# Altium integrated library Analog Devices Operational Amplifiers.IntLib: 2102 symbols (part 49 of 70)
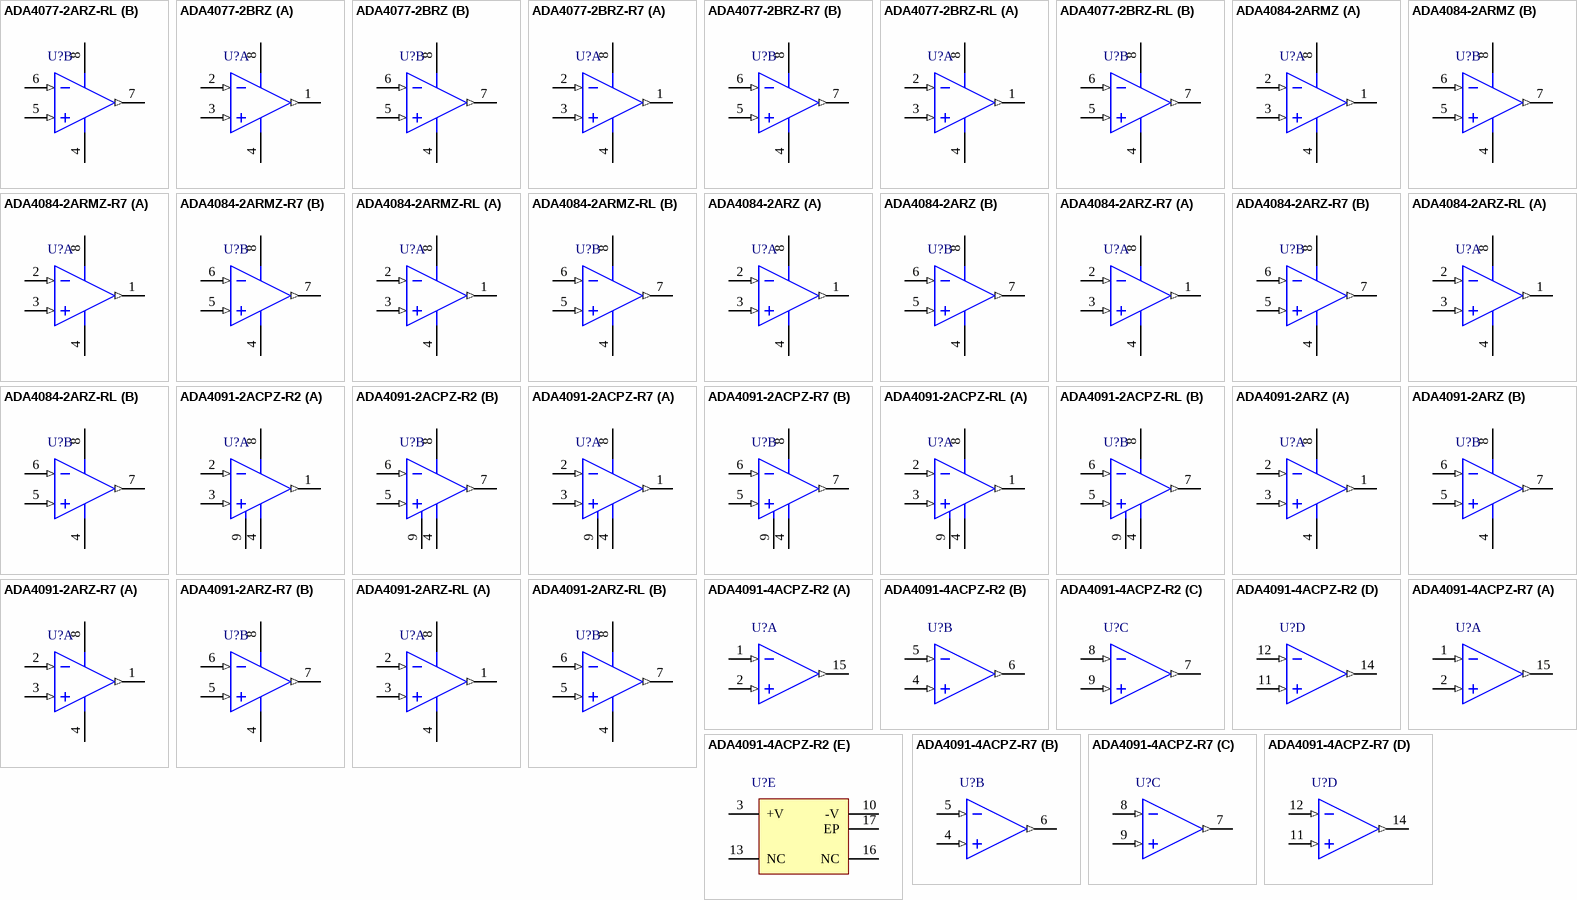
[diagram p162: symbols ADA4077-2ARZ-RL to ADA4091-4ACPZ-R7]

## ADA4091-2ARZ-R7
designator U?
Double Channel Rail-to-Rail Operational Amplifier, 1.27 MHz BW, 460 mV/us SR, Industrial, 8-pin SOIC (R-8), Reel; Generic Part Number: ADA4091-2; Manufacturer: Analog Devices; PartNumber: ADA4091-2ARZ-R7; Amplifiers Per Package: 2; Input Bias Current: 50nA; Input Offset Voltage: 35uV; Iq/Amp: 200uA; V Span Max: 30V; V Span Min: 3V; DatasheetVersion: Rev. F; PackageVersion: 060506-A; PackageReference: R-8; PackageDescription: 8-Pin Standard Small Outline Package, Body 3.9 x 4.9 mm, Pitch 1.27 mm; Supplier 1: Digi-Key; Supplier Part Number 1: ADA4091-2ARZ-R7-ND; Supplier 2: Newark; Supplier Part Number 2: 34P2966; Slew Rate: 460mV/us; Small Signal Bandwidth: 1.27MHz; Mounting Technology: Surface Mount; Code_JEDEC: MS-012-AA; ComponentLink1Description: Manufacturer URL; ComponentLink1URL: http://www.analog.com/en/index.html; ComponentLink2Description: Datasheet; ComponentLink2URL: http://www.analog.com/static/imported-files/data_sheets/ADA4091-2_4091-4.pdf; ComponentLink3Description: Package Specification; ComponentLink3URL: http://www.analog.com/static/imported-files/packages/PKG_PDF/SOIC_Narrow%20(R)/R_8.pdf; ComponentLink4Description: Reference Circuit; ComponentLink4URL: http://www.analog.com/en/all-operational-amplifiers-op-amps/operational-amplifiers-op-amps/ada4091-2/products/product.html#product-recommendations
footprint ADI-R-8_N (SOIC, 8-Leads, Body 4.9x3.9mm, Pitch 1.27mm, IPC Medium Density)
footprint ADI-R-8_L (SOIC, 8-Leads, Body 4.9x3.9mm, Pitch 1.27mm, IPC High Density)
footprint ADI-R-8_M (SOIC, 8-Leads, Body 4.9x3.9mm, Pitch 1.27mm, IPC Low Density)
pins on every part: 4 -V (power), 8 +V (power)
part A pins: 1 OUT A (out), 2 -IN A (in), 3 +IN A (in)
part B pins: 5 +IN B (in), 6 -IN B (in), 7 OUT B (out)

## ADA4091-2ARZ-RL
designator U?
Double Channel Rail-to-Rail Operational Amplifier, 1.27 MHz BW, 460 mV/us SR, Industrial, 8-pin SOIC (R-8), Reel; Generic Part Number: ADA4091-2; Manufacturer: Analog Devices; PartNumber: ADA4091-2ARZ-RL; Amplifiers Per Package: 2; Input Bias Current: 50nA; Input Offset Voltage: 35uV; Iq/Amp: 200uA; V Span Max: 30V; V Span Min: 3V; DatasheetVersion: Rev. F; PackageVersion: 060506-A; PackageReference: R-8; PackageDescription: 8-Pin Standard Small Outline Package, Body 3.9 x 4.9 mm, Pitch 1.27 mm; Supplier 1: Digi-Key; Supplier Part Number 1: ADA4091-2ARZ-RL-ND; Supplier 2: Newark; Supplier Part Number 2: 34P2965; Slew Rate: 460mV/us; Small Signal Bandwidth: 1.27MHz; Mounting Technology: Surface Mount; Code_JEDEC: MS-012-AA; ComponentLink1Description: Manufacturer URL; ComponentLink1URL: http://www.analog.com/en/index.html; ComponentLink2Description: Datasheet; ComponentLink2URL: http://www.analog.com/static/imported-files/data_sheets/ADA4091-2_4091-4.pdf; ComponentLink3Description: Package Specification; ComponentLink3URL: http://www.analog.com/static/imported-files/packages/PKG_PDF/SOIC_Narrow%20(R)/R_8.pdf; ComponentLink4Description: Reference Circuit; ComponentLink4URL: http://www.analog.com/en/all-operational-amplifiers-op-amps/operational-amplifiers-op-amps/ada4091-2/products/product.html#product-recommendations
footprint ADI-R-8_N (SOIC, 8-Leads, Body 4.9x3.9mm, Pitch 1.27mm, IPC Medium Density)
footprint ADI-R-8_L (SOIC, 8-Leads, Body 4.9x3.9mm, Pitch 1.27mm, IPC High Density)
footprint ADI-R-8_M (SOIC, 8-Leads, Body 4.9x3.9mm, Pitch 1.27mm, IPC Low Density)
pins on every part: 4 -V (power), 8 +V (power)
part A pins: 1 OUT A (out), 2 -IN A (in), 3 +IN A (in)
part B pins: 5 +IN B (in), 6 -IN B (in), 7 OUT B (out)

## ADA4091-4ACPZ-R2
designator U?
Quad Channel Rail-to-Rail Operational Amplifier, 1.27 MHz BW, 460 mV/us SR, Industrial, 16-pin QFN (CP-16-17), Reel; Generic Part Number: ADA4091-4; Manufacturer: Analog Devices; PartNumber: ADA4091-4ACPZ-R2; Amplifiers Per Package: 4; Input Bias Current: 50nA; Input Offset Voltage: 35uV; Iq/Amp: 200uA; V Span Max: 30V; V Span Min: 3V; DatasheetVersion: Rev. F; PackageVersion: 08-16-2010-C; PackageReference: CP-16-17; PackageDescription: 16-Pin Lead Frame Chip Scale Package, Body 4 x 4 mm, Pitch 0.65 mm; Supplier 1: Digi-Key; Supplier Part Number 1: ADA4091-4ACPZ-R2TR-ND; Supplier 2: Digi-Key; Supplier Part Number 2: ADA4091-4ACPZ-R2CT-ND; Supplier 3: Digi-Key; Supplier Part Number 3: ADA4091-4ACPZ-R2DKR-ND; Supplier 4: Newark; Supplier Part Number 4: 74R5830; Slew Rate: 460mV/us; Small Signal Bandwidth: 1.27MHz; Mounting Technology: Surface Mount; Code_JEDEC: MO-220-WGGC; ComponentLink1Description: Manufacturer URL; ComponentLink1URL: http://www.analog.com/en/index.html; ComponentLink2Description: Datasheet; ComponentLink2URL: http://www.analog.com/static/imported-files/data_sheets/ADA4091-2_4091-4.pdf; ComponentLink3Description: Package Specification; ComponentLink3URL: http://www.analog.com/static/imported-files/packages/PKG_PDF/LFCSP(CP)/CP_16_17.pdf; ComponentLink4Description: Reference Circuit; ComponentLink4URL: http://www.analog.com/en/all-operational-amplifiers-op-amps/operational-amplifiers-op-amps/ada4091-4/products/product.html#product-recommendations
footprint ADI-CP-16-17_N (QFN, 16-Leads, Body 4x4mm, Pitch 0.65mm, Thermal Pad 2.60x2.60mm, IPC Medium Density)
footprint ADI-CP-16-17_L (QFN, 16-Leads, Body 4x4mm, Pitch 0.65mm, Thermal Pad 2.60x2.60mm, IPC High Density)
footprint ADI-CP-16-17_M (QFN, 16-Leads, Body 4x4mm, Pitch 0.65mm, Thermal Pad 2.60x2.60mm, IPC Low Density)
part A pins: 1 -IN A (in), 2 +IN A (in), 15 OUT A (out)
part B pins: 4 +IN B (in), 5 -IN B (in), 6 OUT B (out)
part C pins: 7 OUT C (out), 8 -IN C (in), 9 +IN C (in)
part D pins: 11 +IN D (in), 12 -IN D (in), 14 OUT D (out)
part E pins: 3 +V (power), 10 -V (power), 13 NC, 16 NC, 17 EP (power) "IT IS RECOMMENDED THAT THE EXPOSED PAD BE CONNECTED TO V-."

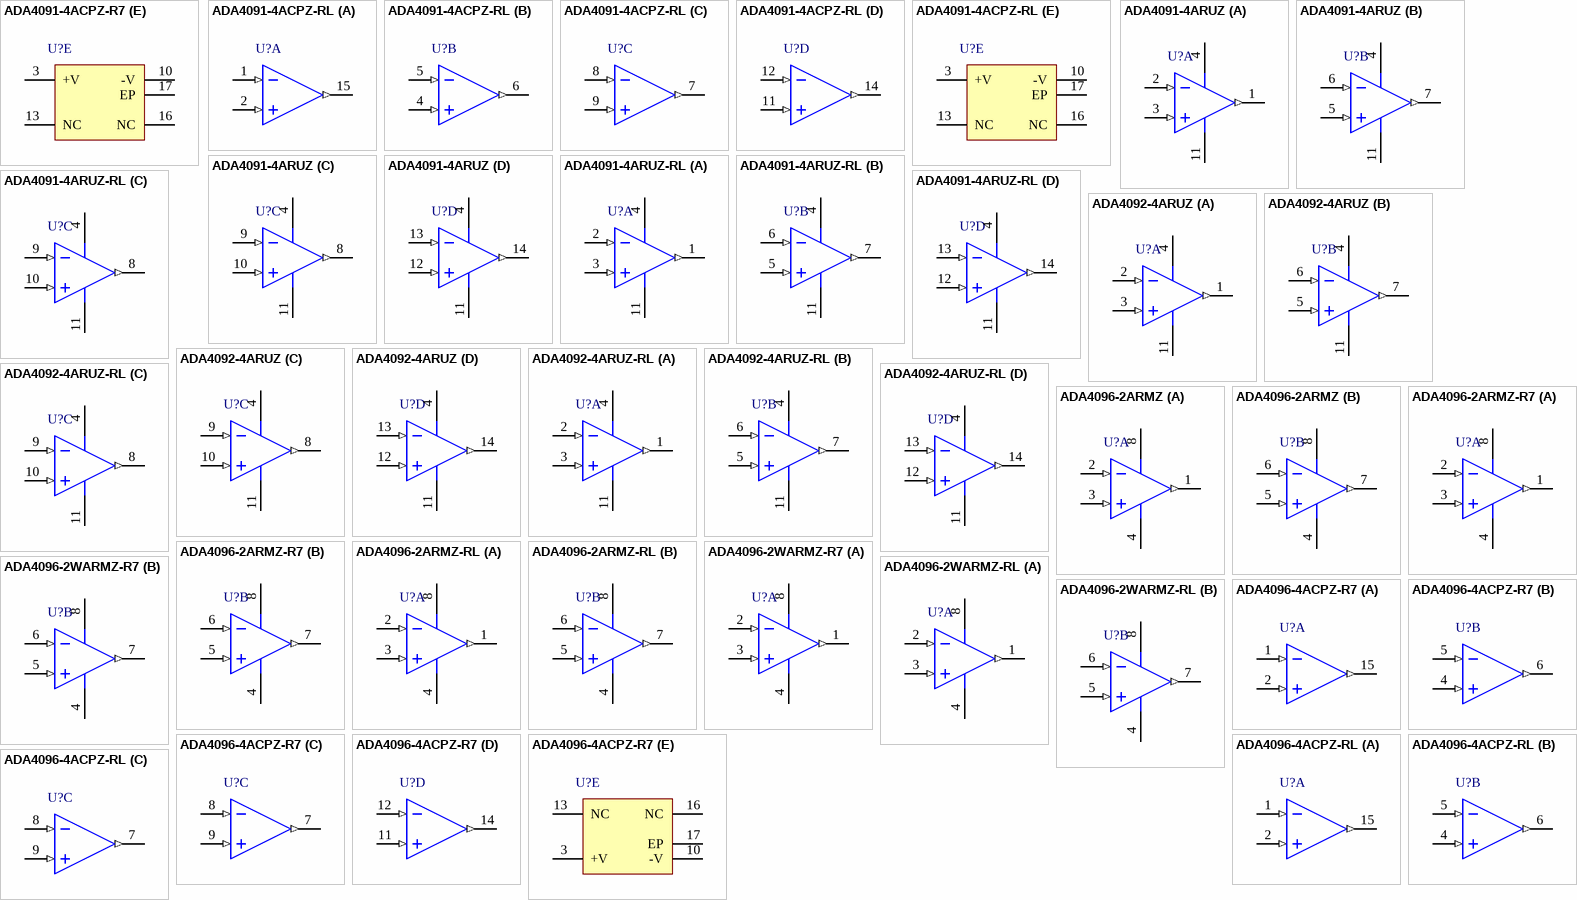
[diagram p77: symbols ADA4091-4ACPZ-R7 to ADA4096-4ACPZ-RL]

## ADA4091-4ACPZ-R7
designator U?
Quad Channel Rail-to-Rail Operational Amplifier, 1.27 MHz BW, 460 mV/us SR, Industrial, 16-pin QFN (CP-16-17), Reel; Generic Part Number: ADA4091-4; Manufacturer: Analog Devices; PartNumber: ADA4091-4ACPZ-R7; Amplifiers Per Package: 4; Input Bias Current: 50nA; Input Offset Voltage: 35uV; Iq/Amp: 200uA; V Span Max: 30V; V Span Min: 3V; DatasheetVersion: Rev. F; PackageVersion: 08-16-2010-C; PackageReference: CP-16-17; PackageDescription: 16-Pin Lead Frame Chip Scale Package, Body 4 x 4 mm, Pitch 0.65 mm; Supplier 1: Digi-Key; Supplier Part Number 1: ADA4091-4ACPZ-R7-ND; Supplier 2: Newark; Supplier Part Number 2: 74R5831; Slew Rate: 460mV/us; Small Signal Bandwidth: 1.27MHz; Mounting Technology: Surface Mount; Code_JEDEC: MO-220-WGGC; ComponentLink1Description: Manufacturer URL; ComponentLink1URL: http://www.analog.com/en/index.html; ComponentLink2Description: Datasheet; ComponentLink2URL: http://www.analog.com/static/imported-files/data_sheets/ADA4091-2_4091-4.pdf; ComponentLink3Description: Package Specification; ComponentLink3URL: http://www.analog.com/static/imported-files/packages/PKG_PDF/LFCSP(CP)/CP_16_17.pdf; ComponentLink4Description: Reference Circuit; ComponentLink4URL: http://www.analog.com/en/all-operational-amplifiers-op-amps/operational-amplifiers-op-amps/ada4091-4/products/product.html#product-recommendations
footprint ADI-CP-16-17_N (QFN, 16-Leads, Body 4x4mm, Pitch 0.65mm, Thermal Pad 2.60x2.60mm, IPC Medium Density)
footprint ADI-CP-16-17_L (QFN, 16-Leads, Body 4x4mm, Pitch 0.65mm, Thermal Pad 2.60x2.60mm, IPC High Density)
footprint ADI-CP-16-17_M (QFN, 16-Leads, Body 4x4mm, Pitch 0.65mm, Thermal Pad 2.60x2.60mm, IPC Low Density)
part A pins: 1 -IN A (in), 2 +IN A (in), 15 OUT A (out)
part B pins: 4 +IN B (in), 5 -IN B (in), 6 OUT B (out)
part C pins: 7 OUT C (out), 8 -IN C (in), 9 +IN C (in)
part D pins: 11 +IN D (in), 12 -IN D (in), 14 OUT D (out)
part E pins: 3 +V (power), 10 -V (power), 13 NC, 16 NC, 17 EP (power) "IT IS RECOMMENDED THAT THE EXPOSED PAD BE CONNECTED TO V-."

## ADA4091-4ACPZ-RL
designator U?
Quad Channel Rail-to-Rail Operational Amplifier, 1.27 MHz BW, 460 mV/us SR, Industrial, 16-pin QFN (CP-16-17), Reel; Generic Part Number: ADA4091-4; Manufacturer: Analog Devices; PartNumber: ADA4091-4ACPZ-RL; Amplifiers Per Package: 4; Input Bias Current: 50nA; Input Offset Voltage: 35uV; Iq/Amp: 200uA; V Span Max: 30V; V Span Min: 3V; DatasheetVersion: Rev. F; PackageVersion: 08-16-2010-C; PackageReference: CP-16-17; PackageDescription: 16-Pin Lead Frame Chip Scale Package, Body 4 x 4 mm, Pitch 0.65 mm; Supplier 1: Digi-Key; Supplier Part Number 1: ADA4091-4ACPZ-RL-ND; Slew Rate: 460mV/us; Small Signal Bandwidth: 1.27MHz; Mounting Technology: Surface Mount; Code_JEDEC: MO-220-WGGC; ComponentLink1Description: Manufacturer URL; ComponentLink1URL: http://www.analog.com/en/index.html; ComponentLink2Description: Datasheet; ComponentLink2URL: http://www.analog.com/static/imported-files/data_sheets/ADA4091-2_4091-4.pdf; ComponentLink3Description: Package Specification; ComponentLink3URL: http://www.analog.com/static/imported-files/packages/PKG_PDF/LFCSP(CP)/CP_16_17.pdf; ComponentLink4Description: Reference Circuit; ComponentLink4URL: http://www.analog.com/en/all-operational-amplifiers-op-amps/operational-amplifiers-op-amps/ada4091-4/products/product.html#product-recommendations
footprint ADI-CP-16-17_N (QFN, 16-Leads, Body 4x4mm, Pitch 0.65mm, Thermal Pad 2.60x2.60mm, IPC Medium Density)
footprint ADI-CP-16-17_L (QFN, 16-Leads, Body 4x4mm, Pitch 0.65mm, Thermal Pad 2.60x2.60mm, IPC High Density)
footprint ADI-CP-16-17_M (QFN, 16-Leads, Body 4x4mm, Pitch 0.65mm, Thermal Pad 2.60x2.60mm, IPC Low Density)
part A pins: 1 -IN A (in), 2 +IN A (in), 15 OUT A (out)
part B pins: 4 +IN B (in), 5 -IN B (in), 6 OUT B (out)
part C pins: 7 OUT C (out), 8 -IN C (in), 9 +IN C (in)
part D pins: 11 +IN D (in), 12 -IN D (in), 14 OUT D (out)
part E pins: 3 +V (power), 10 -V (power), 13 NC, 16 NC, 17 EP (power) "IT IS RECOMMENDED THAT THE EXPOSED PAD BE CONNECTED TO V-."

## ADA4091-4ARUZ
designator U?
Quad Channel Rail-to-Rail Operational Amplifier, 1.27 MHz BW, 460 mV/us SR, Industrial, 14-pin SOP (RU-14), Tube; Generic Part Number: ADA4091-4; Manufacturer: Analog Devices; PartNumber: ADA4091-4ARUZ; Amplifiers Per Package: 4; Input Bias Current: 50nA; Input Offset Voltage: 35uV; Iq/Amp: 200uA; V Span Max: 30V; V Span Min: 3V; DatasheetVersion: Rev. F; PackageReference: RU-14; PackageDescription: 14-Pin Thin Shrink Small Outline Package, Body 5 x 4.4 mm, Pitch 0.65 mm; Supplier 1: Digi-Key; Supplier Part Number 1: ADA4091-4ARUZ-ND; Supplier 2: Farnell; Supplier Part Number 2: 1827375; Supplier 3: Newark; Supplier Part Number 3: 26R2390; Slew Rate: 460mV/us; Small Signal Bandwidth: 1.27MHz; Mounting Technology: Surface Mount; Code_JEDEC: MO-153AB-1; ComponentLink1Description: Manufacturer URL; ComponentLink1URL: http://www.analog.com/en/index.html; ComponentLink2Description: Datasheet; ComponentLink2URL: http://www.analog.com/static/imported-files/data_sheets/ADA4091-2_4091-4.pdf; ComponentLink3Description: Package Specification; ComponentLink3URL: http://www.analog.com/static/imported-files/packages/36057385283879153717235186773RU14.pdf; ComponentLink4Description: Reference Circuit; ComponentLink4URL: http://www.analog.com/en/all-operational-amplifiers-op-amps/operational-amplifiers-op-amps/ada4091-4/products/product.html#product-recommendations
footprint ADI-RU-14_N (SOP, 14-Leads, Body 5x4.4mm, Pitch 0.65mm, IPC Medium Density)
footprint ADI-RU-14_L (SOP, 14-Leads, Body 5x4.4mm, Pitch 0.65mm, IPC High Density)
footprint ADI-RU-14_M (SOP, 14-Leads, Body 5x4.4mm, Pitch 0.65mm, IPC Low Density)
pins on every part: 4 +V (power), 11 -V (power)
part A pins: 1 OUT A (out), 2 -IN A (in), 3 +IN A (in)
part B pins: 5 +IN B (in), 6 -IN B (in), 7 OUT B (out)
part C pins: 8 OUT C (out), 9 -IN C (in), 10 +IN C (in)
part D pins: 12 +IN D (in), 13 -IN D (in), 14 OUT D (out)

## ADA4091-4ARUZ-RL
designator U?
Quad Channel Rail-to-Rail Operational Amplifier, 1.27 MHz BW, 460 mV/us SR, Industrial, 14-pin SOP (RU-14), Reel; Generic Part Number: ADA4091-4; Manufacturer: Analog Devices; PartNumber: ADA4091-4ARUZ-RL; Amplifiers Per Package: 4; Input Bias Current: 50nA; Input Offset Voltage: 35uV; Iq/Amp: 200uA; V Span Max: 30V; V Span Min: 3V; DatasheetVersion: Rev. F; PackageReference: RU-14; PackageDescription: 14-Pin Thin Shrink Small Outline Package, Body 5 x 4.4 mm, Pitch 0.65 mm; Supplier 1: Digi-Key; Supplier Part Number 1: ADA4091-4ARUZ-RL-ND; Supplier 2: Newark; Supplier Part Number 2: 26R2391; Slew Rate: 460mV/us; Small Signal Bandwidth: 1.27MHz; Mounting Technology: Surface Mount; Code_JEDEC: MO-153AB-1; ComponentLink1Description: Manufacturer URL; ComponentLink1URL: http://www.analog.com/en/index.html; ComponentLink2Description: Datasheet; ComponentLink2URL: http://www.analog.com/static/imported-files/data_sheets/ADA4091-2_4091-4.pdf; ComponentLink3Description: Package Specification; ComponentLink3URL: http://www.analog.com/static/imported-files/packages/36057385283879153717235186773RU14.pdf; ComponentLink4Description: Reference Circuit; ComponentLink4URL: http://www.analog.com/en/all-operational-amplifiers-op-amps/operational-amplifiers-op-amps/ada4091-4/products/product.html#product-recommendations
footprint ADI-RU-14_N (SOP, 14-Leads, Body 5x4.4mm, Pitch 0.65mm, IPC Medium Density)
footprint ADI-RU-14_L (SOP, 14-Leads, Body 5x4.4mm, Pitch 0.65mm, IPC High Density)
footprint ADI-RU-14_M (SOP, 14-Leads, Body 5x4.4mm, Pitch 0.65mm, IPC Low Density)
pins on every part: 4 +V (power), 11 -V (power)
part A pins: 1 OUT A (out), 2 -IN A (in), 3 +IN A (in)
part B pins: 5 +IN B (in), 6 -IN B (in), 7 OUT B (out)
part C pins: 8 OUT C (out), 9 -IN C (in), 10 +IN C (in)
part D pins: 12 +IN D (in), 13 -IN D (in), 14 OUT D (out)

## ADA4092-4ARUZ
designator U?
Quad Channel Wide Bandwidth Operational Amplifier, 1.4 MHz BW, 400 mV/us SR, Industrial, 14-pin SOP (RU-14), Tube; Generic Part Number: ADA4092-4; Manufacturer: Analog Devices; PartNumber: ADA4092-4ARUZ; Amplifiers Per Package: 4; Input Bias Current: 50nA; Input Offset Voltage: 200uV; Iq/Amp: 200uA; Small Signal Bandwidth: 1.4MHz; V Span Max: 30V; V Span Min: 2.7V; DatasheetVersion: Rev. B; PackageReference: RU-14; PackageDescription: 14-Pin Thin Shrink Small Outline Package, Body 5 x 4.4 mm, Pitch 0.65 mm; Supplier 1: Digi-Key; Supplier Part Number 1: ADA4092-4ARUZ-ND; Supplier 2: Farnell; Supplier Part Number 2: 1827392; Supplier 3: Newark; Supplier Part Number 3: 80R8146; Supplier 4: Newark; Supplier Part Number 4: 76R7554; Packing: Tube; Slew Rate: 400mV/us; Mounting Technology: Surface Mount; Code_JEDEC: MO-153AB-1; ComponentLink1Description: Manufacturer URL; ComponentLink1URL: http://www.analog.com/en/index.html; ComponentLink2Description: Datasheet; ComponentLink2URL: http://www.analog.com/static/imported-files/data_sheets/ADA4092-4.pdf; ComponentLink3Description: Package Specification; ComponentLink3URL: http://www.analog.com/static/imported-files/packages/36057385283879153717235186773RU14.pdf
footprint ADI-RU-14_N (SOP, 14-Leads, Body 5x4.4mm, Pitch 0.65mm, IPC Medium Density)
footprint ADI-RU-14_L (SOP, 14-Leads, Body 5x4.4mm, Pitch 0.65mm, IPC High Density)
footprint ADI-RU-14_M (SOP, 14-Leads, Body 5x4.4mm, Pitch 0.65mm, IPC Low Density)
pins on every part: 4 +V (power), 11 -V (power)
part A pins: 1 OUT A (out), 2 -IN A (in), 3 +IN A (in)
part B pins: 5 +IN B (in), 6 -IN B (in), 7 OUT B (out)
part C pins: 8 OUT C (out), 9 -IN C (in), 10 +IN C (in)
part D pins: 12 +IN D (in), 13 -IN D (in), 14 OUT D (out)

## ADA4092-4ARUZ-RL
designator U?
Quad Channel Wide Bandwidth Operational Amplifier, 1.4 MHz BW, 400 mV/us SR, Industrial, 14-pin SOP (RU-14), Reel; Generic Part Number: ADA4092-4; Manufacturer: Analog Devices; PartNumber: ADA4092-4ARUZ-RL; Amplifiers Per Package: 4; Input Bias Current: 50nA; Input Offset Voltage: 200uV; Iq/Amp: 200uA; Small Signal Bandwidth: 1.4MHz; V Span Max: 30V; V Span Min: 2.7V; DatasheetVersion: Rev. B; PackageReference: RU-14; PackageDescription: 14-Pin Thin Shrink Small Outline Package, Body 5 x 4.4 mm, Pitch 0.65 mm; Supplier 1: Digi-Key; Supplier Part Number 1: ADA4092-4ARUZ-RLTR-ND; Supplier 2: Digi-Key; Supplier Part Number 2: ADA4092-4ARUZ-RLCT-ND; Supplier 3: Digi-Key; Supplier Part Number 3: ADA4092-4ARUZ-RLDKR-ND; Packing: Reel; Slew Rate: 400mV/us; Mounting Technology: Surface Mount; Code_JEDEC: MO-153AB-1; ComponentLink1Description: Manufacturer URL; ComponentLink1URL: http://www.analog.com/en/index.html; ComponentLink2Description: Datasheet; ComponentLink2URL: http://www.analog.com/static/imported-files/data_sheets/ADA4092-4.pdf; ComponentLink3Description: Package Specification; ComponentLink3URL: http://www.analog.com/static/imported-files/packages/36057385283879153717235186773RU14.pdf
footprint ADI-RU-14_N (SOP, 14-Leads, Body 5x4.4mm, Pitch 0.65mm, IPC Medium Density)
footprint ADI-RU-14_L (SOP, 14-Leads, Body 5x4.4mm, Pitch 0.65mm, IPC High Density)
footprint ADI-RU-14_M (SOP, 14-Leads, Body 5x4.4mm, Pitch 0.65mm, IPC Low Density)
pins on every part: 4 +V (power), 11 -V (power)
part A pins: 1 OUT A (out), 2 -IN A (in), 3 +IN A (in)
part B pins: 5 +IN B (in), 6 -IN B (in), 7 OUT B (out)
part C pins: 8 OUT C (out), 9 -IN C (in), 10 +IN C (in)
part D pins: 12 +IN D (in), 13 -IN D (in), 14 OUT D (out)

## ADA4096-2ARMZ
designator U?
Double Channel RRIO Operational Amplifier, 501 KHz BW, 250 mV/us SR, Industrial, 8-pin SOP (RM-8), Tube; Generic Part Number: ADA4096-2; Manufacturer: Analog Devices; PartNumber: ADA4096-2ARMZ; Amplifiers Per Package: 2; Input Bias Current: 10nA; Input Offset Voltage: 35uV; Iq/Amp: 40uA; Small Signal Bandwidth: 501KHz; V Span Max: 30V; V Span Min: 3V; DatasheetVersion: Rev. C; PackageReference: RM-8; PackageDescription: 8-Pin Mini Small Outline Package, Body 3 x 3 mm, Pitch 0.65 mm; Supplier 1: Digi-Key; Supplier Part Number 1: ADA4096-2ARMZ-ND; Supplier 2: Farnell; Supplier Part Number 2: 2061094; Supplier 3: Newark; Supplier Part Number 3: 55T8893; Packing: Tube; Slew Rate: 250mV/us; Mounting Technology: Surface Mount; Code_JEDEC: MO-187-AA; ComponentLink1Description: Manufacturer URL; ComponentLink1URL: http://www.analog.com/en/index.html; ComponentLink2Description: Datasheet; ComponentLink2URL: http://www.analog.com/static/imported-files/data_sheets/ADA4096-2_4096-4.pdf; ComponentLink3Description: Package Specification; ComponentLink3URL: http://www.analog.com/static/imported-files/packages/PKG_PDF/MSOP%28RM%29/RM_8.pdf; ComponentLink4Description: Reference Circuit; ComponentLink4URL: http://www.analog.com/en/all-operational-amplifiers-op-amps/operational-amplifiers-op-amps/ada4096-2/products/product.html#product-recommendations
footprint ADI-RM-8_N (SOP, 8-Leads, Body 3x3mm, Pitch 0.65mm, IPC Medium Density)
footprint ADI-RM-8_L (SOP, 8-Leads, Body 3x3mm, Pitch 0.65mm, IPC High Density)
footprint ADI-RM-8_M (SOP, 8-Leads, Body 3x3mm, Pitch 0.65mm, IPC Low Density)
pins on every part: 4 -V (power), 8 +V (power)
part A pins: 1 OUT A (out), 2 -IN A (in), 3 +IN A (in)
part B pins: 5 +IN B (in), 6 -IN B (in), 7 OUT B (out)

## ADA4096-2ARMZ-R7
designator U?
Double Channel RRIO Operational Amplifier, 501 KHz BW, 250 mV/us SR, Industrial, 8-pin SOP (RM-8), Reel; Generic Part Number: ADA4096-2; Manufacturer: Analog Devices; PartNumber: ADA4096-2ARMZ-R7; Amplifiers Per Package: 2; Input Bias Current: 10nA; Input Offset Voltage: 35uV; Iq/Amp: 40uA; Small Signal Bandwidth: 501KHz; V Span Max: 30V; V Span Min: 3V; DatasheetVersion: Rev. C; PackageReference: RM-8; PackageDescription: 8-Pin Mini Small Outline Package, Body 3 x 3 mm, Pitch 0.65 mm; Supplier 1: Digi-Key; Supplier Part Number 1: ADA4096-2ARMZ-R7TR-ND; Supplier 2: Digi-Key; Supplier Part Number 2: ADA4096-2ARMZ-R7CT-ND; Supplier 3: Digi-Key; Supplier Part Number 3: ADA4096-2ARMZ-R7DKR-ND; Supplier 4: Newark; Supplier Part Number 4: 55T8895; Packing: Reel; Slew Rate: 250mV/us; Mounting Technology: Surface Mount; Code_JEDEC: MO-187-AA; ComponentLink1Description: Manufacturer URL; ComponentLink1URL: http://www.analog.com/en/index.html; ComponentLink2Description: Datasheet; ComponentLink2URL: http://www.analog.com/static/imported-files/data_sheets/ADA4096-2_4096-4.pdf; ComponentLink3Description: Package Specification; ComponentLink3URL: http://www.analog.com/static/imported-files/packages/PKG_PDF/MSOP%28RM%29/RM_8.pdf; ComponentLink4Description: Reference Circuit; ComponentLink4URL: http://www.analog.com/en/all-operational-amplifiers-op-amps/operational-amplifiers-op-amps/ada4096-2/products/product.html#product-recommendations
footprint ADI-RM-8_N (SOP, 8-Leads, Body 3x3mm, Pitch 0.65mm, IPC Medium Density)
footprint ADI-RM-8_L (SOP, 8-Leads, Body 3x3mm, Pitch 0.65mm, IPC High Density)
footprint ADI-RM-8_M (SOP, 8-Leads, Body 3x3mm, Pitch 0.65mm, IPC Low Density)
pins on every part: 4 -V (power), 8 +V (power)
part A pins: 1 OUT A (out), 2 -IN A (in), 3 +IN A (in)
part B pins: 5 +IN B (in), 6 -IN B (in), 7 OUT B (out)

## ADA4096-2ARMZ-RL
designator U?
Double Channel RRIO Operational Amplifier, 501 KHz BW, 250 mV/us SR, Industrial, 8-pin SOP (RM-8), Reel; Generic Part Number: ADA4096-2; Manufacturer: Analog Devices; PartNumber: ADA4096-2ARMZ-RL; Amplifiers Per Package: 2; Input Bias Current: 10nA; Input Offset Voltage: 35uV; Iq/Amp: 40uA; Small Signal Bandwidth: 501KHz; V Span Max: 30V; V Span Min: 3V; DatasheetVersion: Rev. C; PackageReference: RM-8; PackageDescription: 8-Pin Mini Small Outline Package, Body 3 x 3 mm, Pitch 0.65 mm; Supplier 1: Digi-Key; Supplier Part Number 1: ADA4096-2ARMZ-RL-ND; Packing: Reel; Slew Rate: 250mV/us; Mounting Technology: Surface Mount; Code_JEDEC: MO-187-AA; ComponentLink1Description: Manufacturer URL; ComponentLink1URL: http://www.analog.com/en/index.html; ComponentLink2Description: Datasheet; ComponentLink2URL: http://www.analog.com/static/imported-files/data_sheets/ADA4096-2_4096-4.pdf; ComponentLink3Description: Package Specification; ComponentLink3URL: http://www.analog.com/static/imported-files/packages/PKG_PDF/MSOP%28RM%29/RM_8.pdf; ComponentLink4Description: Reference Circuit; ComponentLink4URL: http://www.analog.com/en/all-operational-amplifiers-op-amps/operational-amplifiers-op-amps/ada4096-2/products/product.html#product-recommendations
footprint ADI-RM-8_N (SOP, 8-Leads, Body 3x3mm, Pitch 0.65mm, IPC Medium Density)
footprint ADI-RM-8_L (SOP, 8-Leads, Body 3x3mm, Pitch 0.65mm, IPC High Density)
footprint ADI-RM-8_M (SOP, 8-Leads, Body 3x3mm, Pitch 0.65mm, IPC Low Density)
pins on every part: 4 -V (power), 8 +V (power)
part A pins: 1 OUT A (out), 2 -IN A (in), 3 +IN A (in)
part B pins: 5 +IN B (in), 6 -IN B (in), 7 OUT B (out)

## ADA4096-2WARMZ-R7
designator U?
Double Channel RRIO Operational Amplifier, 501 KHz BW, 250 mV/us SR, Automotive, 8-pin SOP (RM-8), Reel; Generic Part Number: ADA4096-2; Manufacturer: Analog Devices; PartNumber: ADA4096-2WARMZ-R7; Amplifiers Per Package: 2; Input Bias Current: 10nA; Input Offset Voltage: 35uV; Iq/Amp: 40uA; Small Signal Bandwidth: 501KHz; V Span Max: 30V; V Span Min: 3V; DatasheetVersion: Rev. C; PackageReference: RM-8; PackageDescription: 8-Pin Mini Small Outline Package, Body 3 x 3 mm, Pitch 0.65 mm; Supplier 1: Digi-Key; Supplier Part Number 1: ADA4096-2WARMZ-R7-ND; Supplier 2: Newark; Supplier Part Number 2: 55T8897; Packing: Reel; Slew Rate: 250mV/us; Mounting Technology: Surface Mount; Code_JEDEC: MO-187-AA; ComponentLink1Description: Manufacturer URL; ComponentLink1URL: http://www.analog.com/en/index.html; ComponentLink2Description: Datasheet; ComponentLink2URL: http://www.analog.com/static/imported-files/data_sheets/ADA4096-2_4096-4.pdf; ComponentLink3Description: Package Specification; ComponentLink3URL: http://www.analog.com/static/imported-files/packages/PKG_PDF/MSOP%28RM%29/RM_8.pdf; ComponentLink4Description: Reference Circuit; ComponentLink4URL: http://www.analog.com/en/all-operational-amplifiers-op-amps/operational-amplifiers-op-amps/ada4096-2/products/product.html#product-recommendations
footprint ADI-RM-8_N (SOP, 8-Leads, Body 3x3mm, Pitch 0.65mm, IPC Medium Density)
footprint ADI-RM-8_L (SOP, 8-Leads, Body 3x3mm, Pitch 0.65mm, IPC High Density)
footprint ADI-RM-8_M (SOP, 8-Leads, Body 3x3mm, Pitch 0.65mm, IPC Low Density)
pins on every part: 4 -V (power), 8 +V (power)
part A pins: 1 OUT A (out), 2 -IN A (in), 3 +IN A (in)
part B pins: 5 +IN B (in), 6 -IN B (in), 7 OUT B (out)

## ADA4096-2WARMZ-RL
designator U?
Double Channel RRIO Operational Amplifier, 501 KHz BW, 250 mV/us SR, Automotive, 8-pin SOP (RM-8), Reel; Generic Part Number: ADA4096-2; Manufacturer: Analog Devices; PartNumber: ADA4096-2WARMZ-RL; Amplifiers Per Package: 2; Input Bias Current: 10nA; Input Offset Voltage: 35uV; Iq/Amp: 40uA; Small Signal Bandwidth: 501KHz; V Span Max: 30V; V Span Min: 3V; DatasheetVersion: Rev. C; PackageReference: RM-8; PackageDescription: 8-Pin Mini Small Outline Package, Body 3 x 3 mm, Pitch 0.65 mm; Supplier 1: Digi-Key; Supplier Part Number 1: ADA4096-2WARMZ-RL-ND; Packing: Reel; Slew Rate: 250mV/us; Mounting Technology: Surface Mount; Code_JEDEC: MO-187-AA; ComponentLink1Description: Manufacturer URL; ComponentLink1URL: http://www.analog.com/en/index.html; ComponentLink2Description: Datasheet; ComponentLink2URL: http://www.analog.com/static/imported-files/data_sheets/ADA4096-2_4096-4.pdf; ComponentLink3Description: Package Specification; ComponentLink3URL: http://www.analog.com/static/imported-files/packages/PKG_PDF/MSOP%28RM%29/RM_8.pdf; ComponentLink4Description: Reference Circuit; ComponentLink4URL: http://www.analog.com/en/all-operational-amplifiers-op-amps/operational-amplifiers-op-amps/ada4096-2/products/product.html#product-recommendations
footprint ADI-RM-8_N (SOP, 8-Leads, Body 3x3mm, Pitch 0.65mm, IPC Medium Density)
footprint ADI-RM-8_L (SOP, 8-Leads, Body 3x3mm, Pitch 0.65mm, IPC High Density)
footprint ADI-RM-8_M (SOP, 8-Leads, Body 3x3mm, Pitch 0.65mm, IPC Low Density)
pins on every part: 4 -V (power), 8 +V (power)
part A pins: 1 OUT A (out), 2 -IN A (in), 3 +IN A (in)
part B pins: 5 +IN B (in), 6 -IN B (in), 7 OUT B (out)

## ADA4096-4ACPZ-R7
designator U?
Quad Channel RRIO Operational Amplifier, 800 KHz BW, 400 mV/us SR, Industrial, 16-pin QFN (CP-16-27), Reel; Generic Part Number: ADA4096-4; Manufacturer: Analog Devices; PartNumber: ADA4096-4ACPZ-R7; Amplifiers Per Package: 4; Input Bias Current: 3nA; Input Offset Voltage: 35uV; Iq/Amp: 60uA; Small Signal Bandwidth: 800KHz; V Span Max: 30V; V Span Min: 3V; DatasheetVersion: Rev. C; PackageVersion: 091609-A; PackageReference: CP-16-27; PackageDescription: 16-Pin Lead Frame Chip Scale Package, Body 3 x 3 mm, Pitch 0.5 mm; Supplier 1: Digi-Key; Supplier Part Number 1: ADA4096-4ACPZ-R7TR-ND; Supplier 2: Digi-Key; Supplier Part Number 2: ADA4096-4ACPZ-R7CT-ND; Supplier 3: Digi-Key; Supplier Part Number 3: ADA4096-4ACPZ-R7DKR-ND; Supplier 4: Newark; Supplier Part Number 4: 43W5454; Packing: Reel; Slew Rate: 400mV/us; Mounting Technology: Surface Mount; Code_JEDEC: MO-229; ComponentLink1Description: Manufacturer URL; ComponentLink1URL: http://www.analog.com/en/index.html; ComponentLink2Description: Datasheet; ComponentLink2URL: http://www.analog.com/static/imported-files/data_sheets/ADA4096-2_4096-4.pdf; ComponentLink3Description: Package Specification; ComponentLink3URL: http://www.analog.com/static/imported-files/packages/PKG_PDF/LFCSP(CP)/CP_16_27.pdf
footprint ADI-CP-16-27_N (QFN, 16-Leads, Body 3x3mm, Pitch 0.5mm, Thermal Pad 1.55X1.55mm, IPC Medium Density)
footprint ADI-CP-16-27_L (QFN, 16-Leads, Body 3x3mm, Pitch 0.5mm, Thermal Pad 1.55X1.55mm, IPC High Density)
footprint ADI-CP-16-27_M (QFN, 16-Leads, Body 3x3mm, Pitch 0.5mm, Thermal Pad 1.55X1.55mm, IPC Low Density)
part A pins: 1 -IN A (in), 2 +IN A (in), 15 OUT A (out)
part B pins: 4 +IN B (in), 5 -IN B (in), 6 OUT B (out)
part C pins: 7 OUT C (out), 8 -IN C (in), 9 +IN C (in)
part D pins: 11 +IN D (in), 12 -IN D (in), 14 OUT D (out)
part E pins: 3 +V (power), 10 -V (power), 13 NC, 16 NC, 17 EP (power)

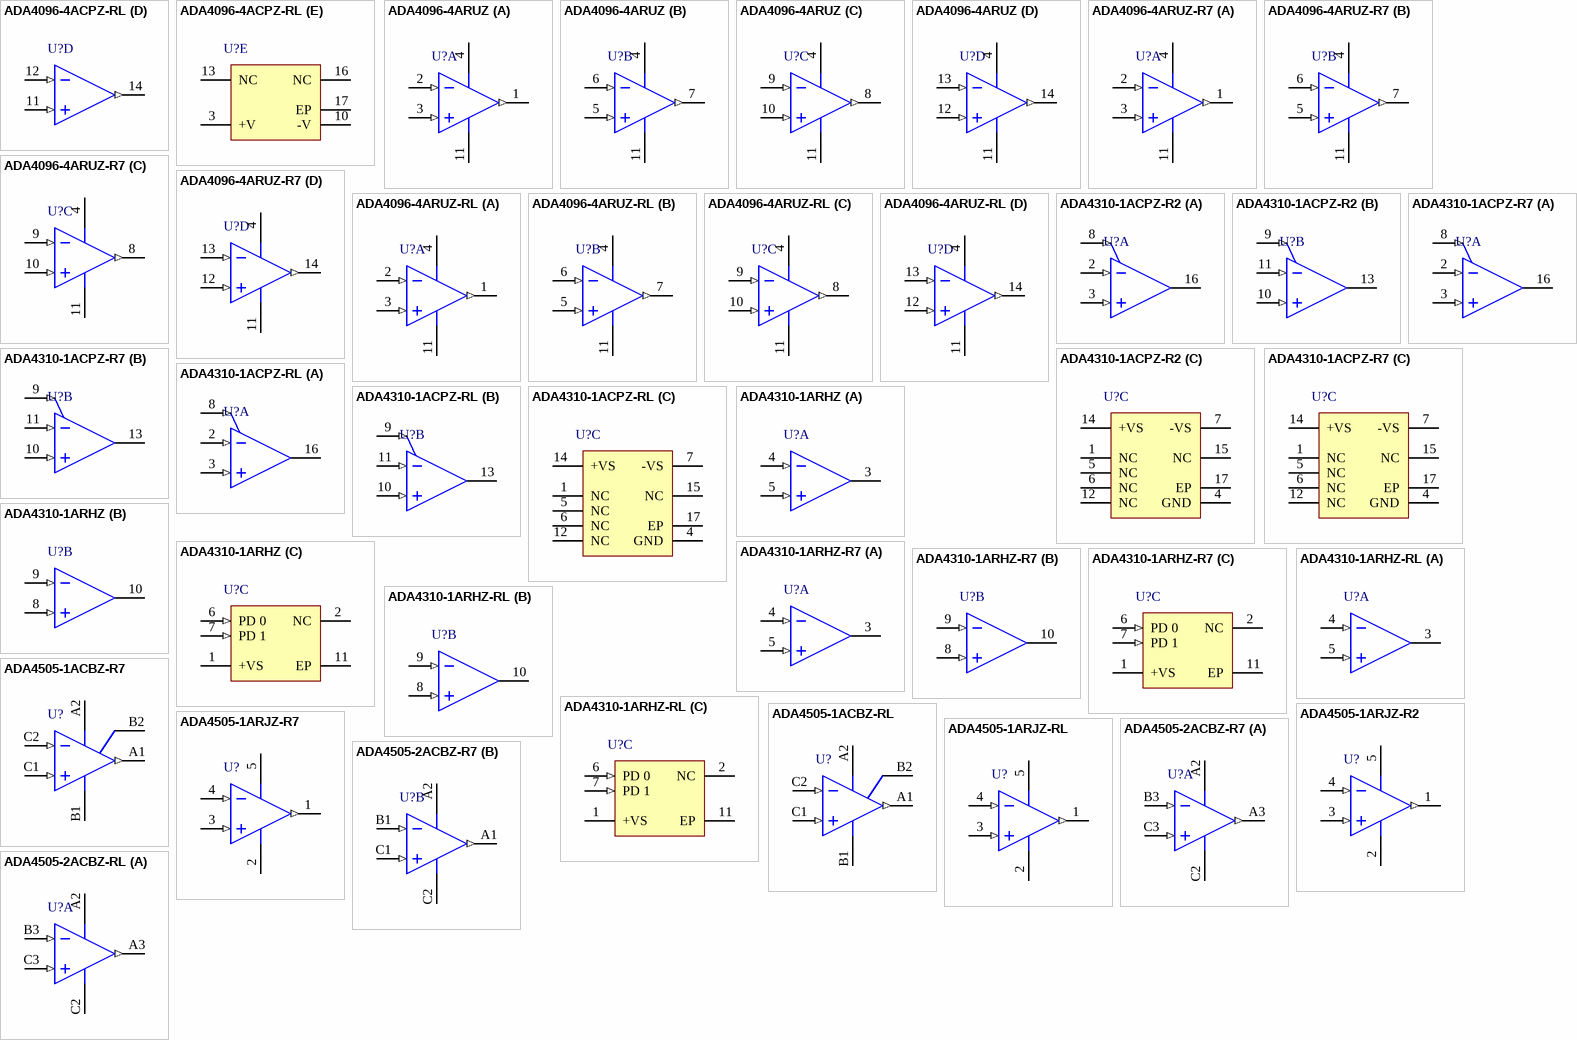
[diagram p78: symbols ADA4096-4ACPZ-RL to ADA4505-2ACBZ-RL]

## ADA4096-4ACPZ-RL
designator U?
Quad Channel RRIO Operational Amplifier, 800 KHz BW, 400 mV/us SR, Industrial, 16-pin QFN (CP-16-27), Reel; Generic Part Number: ADA4096-4; Manufacturer: Analog Devices; PartNumber: ADA4096-4ACPZ-RL; Amplifiers Per Package: 4; Input Bias Current: 3nA; Input Offset Voltage: 35uV; Iq/Amp: 60uA; Small Signal Bandwidth: 800KHz; V Span Max: 30V; V Span Min: 3V; DatasheetVersion: Rev. C; PackageVersion: 091609-A; PackageReference: CP-16-27; PackageDescription: 16-Pin Lead Frame Chip Scale Package, Body 3 x 3 mm, Pitch 0.5 mm; Supplier 1: Digi-Key; Supplier Part Number 1: ADA4096-4ACPZ-RL-ND; Supplier 2: Newark; Supplier Part Number 2: 43W5453; Packing: Reel; Slew Rate: 400mV/us; Mounting Technology: Surface Mount; Code_JEDEC: MO-229; ComponentLink1Description: Manufacturer URL; ComponentLink1URL: http://www.analog.com/en/index.html; ComponentLink2Description: Datasheet; ComponentLink2URL: http://www.analog.com/static/imported-files/data_sheets/ADA4096-2_4096-4.pdf; ComponentLink3Description: Package Specification; ComponentLink3URL: http://www.analog.com/static/imported-files/packages/PKG_PDF/LFCSP(CP)/CP_16_27.pdf
footprint ADI-CP-16-27_N (QFN, 16-Leads, Body 3x3mm, Pitch 0.5mm, Thermal Pad 1.55X1.55mm, IPC Medium Density)
footprint ADI-CP-16-27_L (QFN, 16-Leads, Body 3x3mm, Pitch 0.5mm, Thermal Pad 1.55X1.55mm, IPC High Density)
footprint ADI-CP-16-27_M (QFN, 16-Leads, Body 3x3mm, Pitch 0.5mm, Thermal Pad 1.55X1.55mm, IPC Low Density)
part A pins: 1 -IN A (in), 2 +IN A (in), 15 OUT A (out)
part B pins: 4 +IN B (in), 5 -IN B (in), 6 OUT B (out)
part C pins: 7 OUT C (out), 8 -IN C (in), 9 +IN C (in)
part D pins: 11 +IN D (in), 12 -IN D (in), 14 OUT D (out)
part E pins: 3 +V (power), 10 -V (power), 13 NC, 16 NC, 17 EP (power)

## ADA4096-4ARUZ
designator U?
Quad Channel RRIO Operational Amplifier, 800 KHz BW, 400 mV/us SR, Industrial, 14-pin SOP (RU-14), Tube; Generic Part Number: ADA4096-4; Manufacturer: Analog Devices; PartNumber: ADA4096-4ARUZ; Amplifiers Per Package: 4; Input Bias Current: 3nA; Input Offset Voltage: 35uV; Iq/Amp: 60uA; Small Signal Bandwidth: 800KHz; V Span Max: 30V; V Span Min: 3V; DatasheetVersion: Rev. C; PackageReference: RU-14; PackageDescription: 14-Pin Thin Shrink Small Outline Package, Body 5 x 4.4 mm, Pitch 0.65 mm; Supplier 1: Digi-Key; Supplier Part Number 1: ADA4096-4ARUZ-ND; Supplier 2: Farnell; Supplier Part Number 2: 2213572; Supplier 3: Newark; Supplier Part Number 3: 43W5455; Supplier 4: Newark; Supplier Part Number 4: 45W6179; Packing: Tube; Slew Rate: 400mV/us; Mounting Technology: Surface Mount; Code_JEDEC: MO-153AB-1; ComponentLink1Description: Manufacturer URL; ComponentLink1URL: http://www.analog.com/en/index.html; ComponentLink2Description: Datasheet; ComponentLink2URL: http://www.analog.com/static/imported-files/data_sheets/ADA4096-2_4096-4.pdf; ComponentLink3Description: Package Specification; ComponentLink3URL: http://www.analog.com/static/imported-files/packages/36057385283879153717235186773RU14.pdf
footprint ADI-RU-14_N (SOP, 14-Leads, Body 5x4.4mm, Pitch 0.65mm, IPC Medium Density)
footprint ADI-RU-14_L (SOP, 14-Leads, Body 5x4.4mm, Pitch 0.65mm, IPC High Density)
footprint ADI-RU-14_M (SOP, 14-Leads, Body 5x4.4mm, Pitch 0.65mm, IPC Low Density)
pins on every part: 4 +V (power), 11 -V (power)
part A pins: 1 OUT A (out), 2 -IN A (in), 3 +IN A (in)
part B pins: 5 +IN B (in), 6 -IN B (in), 7 OUT B (out)
part C pins: 8 OUT C (out), 9 -IN C (in), 10 +IN C (in)
part D pins: 12 +IN D (in), 13 -IN D (in), 14 OUT D (out)

## ADA4096-4ARUZ-R7
designator U?
Quad Channel RRIO Operational Amplifier, 800 KHz BW, 400 mV/us SR, Industrial, 14-pin SOP (RU-14), Reel; Generic Part Number: ADA4096-4; Manufacturer: Analog Devices; PartNumber: ADA4096-4ARUZ-R7; Amplifiers Per Package: 4; Input Bias Current: 3nA; Input Offset Voltage: 35uV; Iq/Amp: 60uA; Small Signal Bandwidth: 800KHz; V Span Max: 30V; V Span Min: 3V; DatasheetVersion: Rev. C; PackageReference: RU-14; PackageDescription: 14-Pin Thin Shrink Small Outline Package, Body 5 x 4.4 mm, Pitch 0.65 mm; Supplier 1: Digi-Key; Supplier Part Number 1: ADA4096-4ARUZ-R7TR-ND; Supplier 2: Digi-Key; Supplier Part Number 2: ADA4096-4ARUZ-R7CT-ND; Supplier 3: Digi-Key; Supplier Part Number 3: ADA4096-4ARUZ-R7DKR-ND; Supplier 4: Newark; Supplier Part Number 4: 43W5457; Packing: Reel; Slew Rate: 400mV/us; Mounting Technology: Surface Mount; Code_JEDEC: MO-153AB-1; ComponentLink1Description: Manufacturer URL; ComponentLink1URL: http://www.analog.com/en/index.html; ComponentLink2Description: Datasheet; ComponentLink2URL: http://www.analog.com/static/imported-files/data_sheets/ADA4096-2_4096-4.pdf; ComponentLink3Description: Package Specification; ComponentLink3URL: http://www.analog.com/static/imported-files/packages/36057385283879153717235186773RU14.pdf
footprint ADI-RU-14_N (SOP, 14-Leads, Body 5x4.4mm, Pitch 0.65mm, IPC Medium Density)
footprint ADI-RU-14_L (SOP, 14-Leads, Body 5x4.4mm, Pitch 0.65mm, IPC High Density)
footprint ADI-RU-14_M (SOP, 14-Leads, Body 5x4.4mm, Pitch 0.65mm, IPC Low Density)
pins on every part: 4 +V (power), 11 -V (power)
part A pins: 1 OUT A (out), 2 -IN A (in), 3 +IN A (in)
part B pins: 5 +IN B (in), 6 -IN B (in), 7 OUT B (out)
part C pins: 8 OUT C (out), 9 -IN C (in), 10 +IN C (in)
part D pins: 12 +IN D (in), 13 -IN D (in), 14 OUT D (out)

## ADA4096-4ARUZ-RL
designator U?
Quad Channel RRIO Operational Amplifier, 800 KHz BW, 400 mV/us SR, Industrial, 14-pin SOP (RU-14), Reel; Generic Part Number: ADA4096-4; Manufacturer: Analog Devices; PartNumber: ADA4096-4ARUZ-RL; Amplifiers Per Package: 4; Input Bias Current: 3nA; Input Offset Voltage: 35uV; Iq/Amp: 60uA; Small Signal Bandwidth: 800KHz; V Span Max: 30V; V Span Min: 3V; DatasheetVersion: Rev. C; PackageReference: RU-14; PackageDescription: 14-Pin Thin Shrink Small Outline Package, Body 5 x 4.4 mm, Pitch 0.65 mm; Supplier 1: Digi-Key; Supplier Part Number 1: ADA4096-4ARUZ-RL-ND; Supplier 2: Newark; Supplier Part Number 2: 43W5456; Packing: Reel; Slew Rate: 400mV/us; Mounting Technology: Surface Mount; Code_JEDEC: MO-153AB-1; ComponentLink1Description: Manufacturer URL; ComponentLink1URL: http://www.analog.com/en/index.html; ComponentLink2Description: Datasheet; ComponentLink2URL: http://www.analog.com/static/imported-files/data_sheets/ADA4096-2_4096-4.pdf; ComponentLink3Description: Package Specification; ComponentLink3URL: http://www.analog.com/static/imported-files/packages/36057385283879153717235186773RU14.pdf
footprint ADI-RU-14_N (SOP, 14-Leads, Body 5x4.4mm, Pitch 0.65mm, IPC Medium Density)
footprint ADI-RU-14_L (SOP, 14-Leads, Body 5x4.4mm, Pitch 0.65mm, IPC High Density)
footprint ADI-RU-14_M (SOP, 14-Leads, Body 5x4.4mm, Pitch 0.65mm, IPC Low Density)
pins on every part: 4 +V (power), 11 -V (power)
part A pins: 1 OUT A (out), 2 -IN A (in), 3 +IN A (in)
part B pins: 5 +IN B (in), 6 -IN B (in), 7 OUT B (out)
part C pins: 8 OUT C (out), 9 -IN C (in), 10 +IN C (in)
part D pins: 12 +IN D (in), 13 -IN D (in), 14 OUT D (out)

## ADA4310-1ACPZ-R2
designator U?
Double Channel Low Quiescent Current Operational Amplifier, 190 MHz BW, 820 V/us SR, Industrial, 16-pin QFN (CP-16-4), Reel; Generic Part Number: ADA4310-1; Manufacturer: Analog Devices; PartNumber: ADA4310-1ACPZ-R2; Amplifiers Per Package: 2; Input Bias Current: 6uA; Input Offset Voltage: 1mV; Small Signal Bandwidth: 190MHz; DatasheetVersion: Rev. A; PackageVersion: 010606-0; PackageReference: CP-16-4; PackageDescription: 16-Pin Lead Frame Chip Scale Package, Body 4 x 4 mm, Pitch 0.65 mm; Supplier 1: Digi-Key; Supplier Part Number 1: ADA4310-1ACPZ-R2CT-ND; Supplier 2: Digi-Key; Supplier Part Number 2: ADA4310-1ACPZ-R2DKR-ND; Slew Rate: 820V/us; Mounting Technology: Surface Mount; Code_JEDEC: MO-220-VGGC; ComponentLink1Description: Manufacturer URL; ComponentLink1URL: http://www.analog.com/en/index.html; ComponentLink2Description: Datasheet; ComponentLink2URL: http://www.analog.com/static/imported-files/data_sheets/ADA4310-1.pdf; ComponentLink3Description: Package Specification; ComponentLink3URL: http://www.analog.com/static/imported-files/packages/46009454504174339653421710019CP_16_4.pdf
footprint CP-16-4_N (QFN, 16-Leads, Body 4x4mm, Pitch 0.65mm, Thermal Pad 2.1x2.1mm, IPC Medium Density)
footprint CP-16-4_L (QFN, 16-Leads, Body 4x4mm, Pitch 0.65mm, Thermal Pad 2.1x2.1mm, IPC High Density)
footprint CP-16-4_M (QFN, 16-Leads, Body 4x4mm, Pitch 0.65mm, Thermal Pad 2.1x2.1mm, IPC Low Density)
part A pins: 2 -IN A (in) "Amplifier A Inverting Input", 3 +IN A (in) "Amplifier A Noninverting Input", 8 PD 0 (in) "Power Dissipation Control", 16 OUT A (hiz) "Amplifier A Output"
part B pins: 9 PD 1 (in) "Power Dissipation Control", 10 +IN B (in) "Amplifier B Noninverting Input", 11 -IN B (in) "Amplifier B Inverting Input", 13 OUT B (hiz) "Amplifier B Output"
part C pins: 1 NC "No Connection", 4 GND (power) "Ground", 5 NC "No Connection", 6 NC "No Connection", 7 -VS (power) "Negative Power Supply Input", 12 NC "No Connection", 14 +VS (power) "Positive Power Supply Input", 15 NC "No Connection", 17 EP (power) "Ground"

## ADA4310-1ACPZ-R7
designator U?
Double Channel Low Quiescent Current Operational Amplifier, 190 mhz BW, 820 V/us SR, Industrial, 16-pin QFN (CP-16-4), Reel; Generic Part Number: ADA4310-1; Manufacturer: Analog Devices; PartNumber: ADA4310-1ACPZ-R7; Amplifiers Per Package: 2; Input Bias Current: 6uA; Input Offset Voltage: 1mV; Small Signal Bandwidth: 190MHz; DatasheetVersion: Rev. A; PackageVersion: 010606-0; PackageReference: CP-16-4; PackageDescription: 16-Pin Lead Frame Chip Scale Package, Body 4 x 4 mm, Pitch 0.65 mm; Supplier 1: Digi-Key; Supplier Part Number 1: ADA4310-1ACPZ-R7TR-ND; Supplier 2: Digi-Key; Supplier Part Number 2: ADA4310-1ACPZ-R7CT-ND; Supplier 3: Digi-Key; Supplier Part Number 3: ADA4310-1ACPZ-R7DKR-ND; Slew Rate: 820V/us; Mounting Technology: Surface Mount; Code_JEDEC: MO-220-VGGC; ComponentLink1Description: Manufacturer URL; ComponentLink1URL: http://www.analog.com/en/index.html; ComponentLink2Description: Datasheet; ComponentLink2URL: http://www.analog.com/static/imported-files/data_sheets/ADA4310-1.pdf; ComponentLink3Description: Package Specification; ComponentLink3URL: http://www.analog.com/static/imported-files/packages/46009454504174339653421710019CP_16_4.pdf
footprint CP-16-4_N (QFN, 16-Leads, Body 4x4mm, Pitch 0.65mm, Thermal Pad 2.1x2.1mm, IPC Medium Density)
footprint CP-16-4_L (QFN, 16-Leads, Body 4x4mm, Pitch 0.65mm, Thermal Pad 2.1x2.1mm, IPC High Density)
footprint CP-16-4_M (QFN, 16-Leads, Body 4x4mm, Pitch 0.65mm, Thermal Pad 2.1x2.1mm, IPC Low Density)
part A pins: 2 -IN A (in) "Amplifier A Inverting Input", 3 +IN A (in) "Amplifier A Noninverting Input", 8 PD 0 (in) "Power Dissipation Control", 16 OUT A (hiz) "Amplifier A Output"
part B pins: 9 PD 1 (in) "Power Dissipation Control", 10 +IN B (in) "Amplifier B Noninverting Input", 11 -IN B (in) "Amplifier B Inverting Input", 13 OUT B (hiz) "Amplifier B Output"
part C pins: 1 NC "No Connection", 4 GND (power) "Ground", 5 NC "No Connection", 6 NC "No Connection", 7 -VS (power) "Negative Power Supply Input", 12 NC "No Connection", 14 +VS (power) "Positive Power Supply Input", 15 NC "No Connection", 17 EP (power) "Ground"

## ADA4310-1ACPZ-RL
designator U?
Double Channel Low Quiescent Current Operational Amplifier, 190 mhz BW, 820 V/us SR, Industrial, 16-pin QFN (CP-16-4), Reel; Generic Part Number: ADA4310-1; Manufacturer: Analog Devices; PartNumber: ADA4310-1ACPZ-RL; Amplifiers Per Package: 2; Input Bias Current: 6uA; Input Offset Voltage: 1mV; Small Signal Bandwidth: 190MHz; DatasheetVersion: Rev. A; PackageVersion: 010606-0; PackageReference: CP-16-4; PackageDescription: 16-Pin Lead Frame Chip Scale Package, Body 4 x 4 mm, Pitch 0.65 mm; Supplier 1: Digi-Key; Supplier Part Number 1: ADA4310-1ACPZ-RL-ND; Slew Rate: 820V/us; Mounting Technology: Surface Mount; Code_JEDEC: MO-220-VGGC; ComponentLink1Description: Manufacturer URL; ComponentLink1URL: http://www.analog.com/en/index.html; ComponentLink2Description: Datasheet; ComponentLink2URL: http://www.analog.com/static/imported-files/data_sheets/ADA4310-1.pdf; ComponentLink3Description: Package Specification; ComponentLink3URL: http://www.analog.com/static/imported-files/packages/46009454504174339653421710019CP_16_4.pdf
footprint CP-16-4_N (QFN, 16-Leads, Body 4x4mm, Pitch 0.65mm, Thermal Pad 2.1x2.1mm, IPC Medium Density)
footprint CP-16-4_L (QFN, 16-Leads, Body 4x4mm, Pitch 0.65mm, Thermal Pad 2.1x2.1mm, IPC High Density)
footprint CP-16-4_M (QFN, 16-Leads, Body 4x4mm, Pitch 0.65mm, Thermal Pad 2.1x2.1mm, IPC Low Density)
part A pins: 2 -IN A (in) "Amplifier A Inverting Input", 3 +IN A (in) "Amplifier A Noninverting Input", 8 PD 0 (in) "Power Dissipation Control", 16 OUT A (hiz) "Amplifier A Output"
part B pins: 9 PD 1 (in) "Power Dissipation Control", 10 +IN B (in) "Amplifier B Noninverting Input", 11 -IN B (in) "Amplifier B Inverting Input", 13 OUT B (hiz) "Amplifier B Output"
part C pins: 1 NC "No Connection", 4 GND (power) "Ground", 5 NC "No Connection", 6 NC "No Connection", 7 -VS (power) "Negative Power Supply Input", 12 NC "No Connection", 14 +VS (power) "Positive Power Supply Input", 15 NC "No Connection", 17 EP (power) "Ground"

## ADA4310-1ARHZ
designator U?
Double Channel Low Quiescent Current Operational Amplifier, 190 mhz BW, 820 V/us SR, Industrial, 10-pin SOP (RH-10-1), Tube; Generic Part Number: ADA4310-1; Manufacturer: Analog Devices; PartNumber: ADA4310-1ARHZ; Amplifiers Per Package: 2; Input Bias Current: 6uA; Input Offset Voltage: 1mV; Small Signal Bandwidth: 190MHz; DatasheetVersion: Rev. A; PackageVersion: 071008-C; PackageReference: RH-10-1; PackageDescription: 10-Pin Mini Small Outline Package, Body 3 x 3 mm, Pitch 0.5 mm; Supplier 1: Digi-Key; Supplier Part Number 1: ADA4310-1ARHZ-ND; Supplier 2: Farnell; Supplier Part Number 2: 1498722; Supplier 3: Newark; Supplier Part Number 3: 28M3509; Slew Rate: 820V/us; Mounting Technology: Surface Mount; Code_JEDEC: MO-187-BA-T; ComponentLink1Description: Manufacturer URL; ComponentLink1URL: http://www.analog.com/en/index.html; ComponentLink2Description: Datasheet; ComponentLink2URL: http://www.analog.com/static/imported-files/data_sheets/ADA4310-1.pdf; ComponentLink3Description: Package Specification; ComponentLink3URL: http://www.analog.com/static/imported-files/packages/PKG_PDF/MSOP_ED(RH)/RH_10_1.pdf
footprint ADI-RH-10-1_N (SOP, 10-Leads, Body 3x3mm, Pitch 0.5mm, Thermal Pad 2.17x1.73mm, IPC Medium Density)
footprint ADI-RH-10-1_L (SOP, 10-Leads, Body 3x3mm, Pitch 0.5mm, Thermal Pad 2.17x1.73mm, IPC High Density)
footprint ADI-RH-10-1_M (SOP, 10-Leads, Body 3x3mm, Pitch 0.5mm, Thermal Pad 2.17x1.73mm, IPC Low Density)
part A pins: 3 OUT A (hiz) "Amplifier A Output", 4 -IN A (in) "Amplifier A Inverting Input", 5 +IN A (in) "Amplifier A Noninverting Input"
part B pins: 8 +IN B (in) "Amplifier B Noninverting Input", 9 -IN B (in) "Amplifier B Inverting Input", 10 OUT B (hiz) "Amplifier B Output"
part C pins: 1 +VS (power) "Positive Power Supply Input", 2 NC "No Connection", 6 PD 0 (in) "Power Dissipation Control", 7 PD 1 (in) "Power Dissipation Control", 11 EP (power) "Ground (Electrical Connection Required)"

## ADA4310-1ARHZ-R7
designator U?
Double Channel Low Quiescent Current Operational Amplifier, 190 mhz BW, 820 V/us SR, Industrial, 10-pin SOP (RH-10-1), Reel; Generic Part Number: ADA4310-1; Manufacturer: Analog Devices; PartNumber: ADA4310-1ARHZ-R7; Amplifiers Per Package: 2; Input Bias Current: 6uA; Input Offset Voltage: 1mV; Small Signal Bandwidth: 190MHz; DatasheetVersion: Rev. A; PackageVersion: 071008-C; PackageReference: RH-10-1; PackageDescription: 10-Pin Mini Small Outline Package, Body 3 x 3 mm, Pitch 0.5 mm; Supplier 1: Digi-Key; Supplier Part Number 1: ADA4310-1ARHZ-R7-ND; Slew Rate: 820V/us; Mounting Technology: Surface Mount; Code_JEDEC: MO-187-BA-T; ComponentLink1Description: Manufacturer URL; ComponentLink1URL: http://www.analog.com/en/index.html; ComponentLink2Description: Datasheet; ComponentLink2URL: http://www.analog.com/static/imported-files/data_sheets/ADA4310-1.pdf; ComponentLink3Description: Package Specification; ComponentLink3URL: http://www.analog.com/static/imported-files/packages/PKG_PDF/MSOP_ED(RH)/RH_10_1.pdf
footprint ADI-RH-10-1_N (SOP, 10-Leads, Body 3x3mm, Pitch 0.5mm, Thermal Pad 2.17x1.73mm, IPC Medium Density)
footprint ADI-RH-10-1_L (SOP, 10-Leads, Body 3x3mm, Pitch 0.5mm, Thermal Pad 2.17x1.73mm, IPC High Density)
footprint ADI-RH-10-1_M (SOP, 10-Leads, Body 3x3mm, Pitch 0.5mm, Thermal Pad 2.17x1.73mm, IPC Low Density)
part A pins: 3 OUT A (hiz) "Amplifier A Output", 4 -IN A (in) "Amplifier A Inverting Input", 5 +IN A (in) "Amplifier A Noninverting Input"
part B pins: 8 +IN B (in) "Amplifier B Noninverting Input", 9 -IN B (in) "Amplifier B Inverting Input", 10 OUT B (hiz) "Amplifier B Output"
part C pins: 1 +VS (power) "Positive Power Supply Input", 2 NC "No Connection", 6 PD 0 (in) "Power Dissipation Control", 7 PD 1 (in) "Power Dissipation Control", 11 EP (power) "Ground (Electrical Connection Required)"

## ADA4310-1ARHZ-RL
designator U?
Double Channel Low Quiescent Current Operational Amplifier, 190 mhz BW, 820 V/us SR, Industrial, 10-pin SOP (RH-10-1), Reel; Generic Part Number: ADA4310-1; Manufacturer: Analog Devices; PartNumber: ADA4310-1ARHZ-RL; Amplifiers Per Package: 2; Input Bias Current: 6uA; Input Offset Voltage: 1mV; Small Signal Bandwidth: 190MHz; DatasheetVersion: Rev. A; PackageVersion: 071008-C; PackageReference: RH-10-1; PackageDescription: 10-Pin Mini Small Outline Package, Body 3 x 3 mm, Pitch 0.5 mm; Supplier 1: Digi-Key; Supplier Part Number 1: ADA4310-1ARHZ-RL-ND; Slew Rate: 820V/us; Mounting Technology: Surface Mount; Code_JEDEC: MO-187-BA-T; ComponentLink1Description: Manufacturer URL; ComponentLink1URL: http://www.analog.com/en/index.html; ComponentLink2Description: Datasheet; ComponentLink2URL: http://www.analog.com/static/imported-files/data_sheets/ADA4310-1.pdf; ComponentLink3Description: Package Specification; ComponentLink3URL: http://www.analog.com/static/imported-files/packages/PKG_PDF/MSOP_ED(RH)/RH_10_1.pdf
footprint ADI-RH-10-1_N (SOP, 10-Leads, Body 3x3mm, Pitch 0.5mm, Thermal Pad 2.17x1.73mm, IPC Medium Density)
footprint ADI-RH-10-1_L (SOP, 10-Leads, Body 3x3mm, Pitch 0.5mm, Thermal Pad 2.17x1.73mm, IPC High Density)
footprint ADI-RH-10-1_M (SOP, 10-Leads, Body 3x3mm, Pitch 0.5mm, Thermal Pad 2.17x1.73mm, IPC Low Density)
part A pins: 3 OUT A (hiz) "Amplifier A Output", 4 -IN A (in) "Amplifier A Inverting Input", 5 +IN A (in) "Amplifier A Noninverting Input"
part B pins: 8 +IN B (in) "Amplifier B Noninverting Input", 9 -IN B (in) "Amplifier B Inverting Input", 10 OUT B (hiz) "Amplifier B Output"
part C pins: 1 +VS (power) "Positive Power Supply Input", 2 NC "No Connection", 6 PD 0 (in) "Power Dissipation Control", 7 PD 1 (in) "Power Dissipation Control", 11 EP (power) "Ground (Electrical Connection Required)"

## ADA4505-1ACBZ-R7
designator U?
Single Channel Rail-to-Rail Operational Amplifier, 50 KHz BW, 6 mV/us SR, Industrial, 6-pin BGA (CB-6-7), Reel; Generic Part Number: ADA4505-1; Manufacturer: Analog Devices; PartNumber: ADA4505-1ACBZ-R7; Amplifiers Per Package: 1; Input Bias Current: 500fA; Input Offset Voltage: 500uV; Iq/Amp: 9uA; Slew Rate: 6mV/us; Small Signal Bandwidth: 50KHz; V Span Max: 5V; V Span Min: 1.8V; DatasheetVersion: Rev. D; PackageVersion: 081709-A; PackageReference: CB-6-7; PackageDescription: 6-Ball Wafer Level Chip Scale Package, Body 1.385 x 0.905 mm, Pitch 0.4 mm; Supplier 1: Digi-Key; Supplier Part Number 1: ADA4505-1ACBZ-R7TR-ND; Supplier 2: Digi-Key; Supplier Part Number 2: ADA4505-1ACBZ-R7CT-ND; Supplier 3: Digi-Key; Supplier Part Number 3: ADA4505-1ACBZ-R7DKR-ND; Mounting Technology: Surface Mount; ComponentLink1Description: Manufacturer URL; ComponentLink1URL: http://www.analog.com/en/index.html; ComponentLink2Description: Datasheet; ComponentLink2URL: http://www.analog.com/static/imported-files/data_sheets/ADA4505-1_4505-2_4505-4.pdf; ComponentLink3Description: Package Specification; ComponentLink3URL: http://www.analog.com/static/imported-files/packages/PKG_PDF/WLCSP(CB)/CB_6_7.pdf
footprint ADI-CB-6-7 (BGA, 6-Balls, Body 1.385x0.905mm, Pitch 0.4mm)
pins: A1 OUT (out), A2 +V (power), B1 -V (power), B2 NC, C1 +IN (in), C2 -IN (in)

## ADA4505-1ACBZ-RL
designator U?
Single Channel Rail-to-Rail Operational Amplifier, 50 KHz BW, 6 mV/us SR, Industrial, 6-pin BGA (CB-6-7), Reel; Generic Part Number: ADA4505-1; Manufacturer: Analog Devices; PartNumber: ADA4505-1ACBZ-RL; Amplifiers Per Package: 1; Input Bias Current: 500fA; Input Offset Voltage: 500uV; Iq/Amp: 9uA; Slew Rate: 6mV/us; Small Signal Bandwidth: 50KHz; V Span Max: 5V; V Span Min: 1.8V; DatasheetVersion: Rev. D; PackageVersion: 081709-A; PackageReference: CB-6-7; PackageDescription: 6-Ball Wafer Level Chip Scale Package, Body 1.385 x 0.905 mm, Pitch 0.4 mm; Supplier 1: Digi-Key; Supplier Part Number 1: ADA4505-1ACBZ-RL-ND; Mounting Technology: Surface Mount; ComponentLink1Description: Manufacturer URL; ComponentLink1URL: http://www.analog.com/en/index.html; ComponentLink2Description: Datasheet; ComponentLink2URL: http://www.analog.com/static/imported-files/data_sheets/ADA4505-1_4505-2_4505-4.pdf; ComponentLink3Description: Package Specification; ComponentLink3URL: http://www.analog.com/static/imported-files/packages/PKG_PDF/WLCSP(CB)/CB_6_7.pdf
footprint ADI-CB-6-7 (BGA, 6-Balls, Body 1.385x0.905mm, Pitch 0.4mm)
pins: A1 OUT (out), A2 +V (power), B1 -V (power), B2 NC, C1 +IN (in), C2 -IN (in)